# Altium integrated library shotky.IntLib: 1 symbol
Pins are listed as number, name and electrical type; pins without a type are passive.

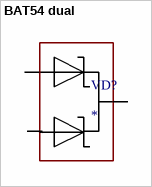
[diagram p0: symbol BAT54 dual]

## BAT54 dual
designator VD?
footprint bat54 dual
pins: 1, 2, 3